# Altium footprint library Speaker Library.PcbLib: 45 footprints (part 3 of 3)
Each footprint in its own frame and in the unit in brackets; x right, y up, seen from the top. Pads: shape width x height; smd on the part's side, far side on the other; paste and mask are expansions set on the pad; w line width, h text height; cw(c..) or ccw(c..) is an arc to the next point about the centre after c.
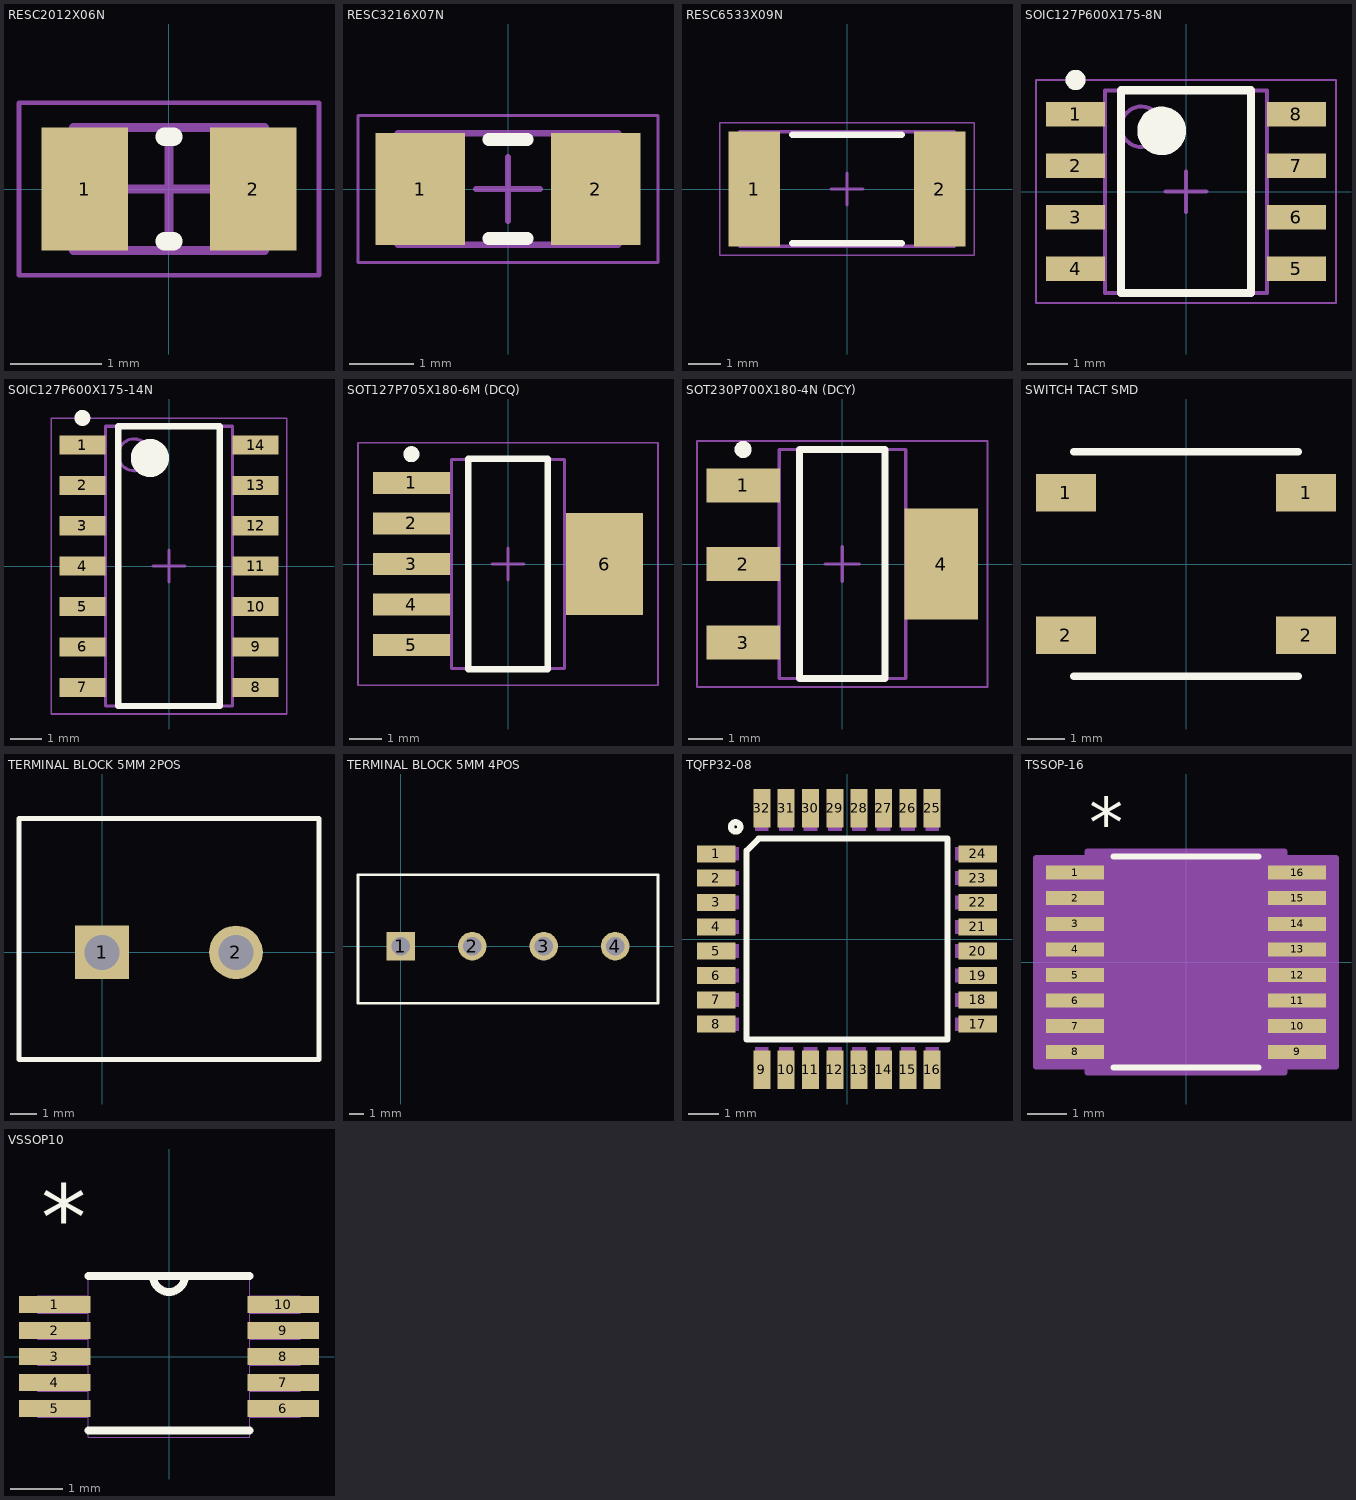
[diagram p2: the footprints below, top view; thin cyan lines are the x and y axes]

## RESC2012X06N [mm] "Chip Resistor, 2-Leads, Body 2.00x1.25mm, IPC Medium Density"
height 0.6
pads (2):
  rect 0.95x1.35 smd: 1(-0.925,0) 2(0.925,0)
Top Overlay:
  lines w0.2: -0.05,-0.575 0.05,-0.575 ; -0.05,0.575 0.05,0.575
Mechanical 13:
  lines w0.1: -1.05,-0.675 -1.05,0.675 1.05,0.675 1.05,-0.675 -1.05,-0.675
Mechanical 15:
  lines w0.05: -1.65,-0.95 -1.65,0.95 1.65,0.95 1.65,-0.95 -1.65,-0.95
  lines w0.1: -0.5,0 0.5,0 ; 0,-0.5 0,0.5
3D body: height 0.6, standoff 0, extent -0.75,-0.675 0.75,0.675
3D body: height 0.6, standoff 0, extent -1.05,-0.675 -0.75,0.675
3D body: height 0.6, standoff 0, extent 0.75,-0.675 1.05,0.675

## RESC3216X07N [mm] "Chip Resistor, 2-Leads, Body 3.20x1.60mm, IPC Medium Density"
height 0.7
pads (2):
  rect 1.4x1.75 smd: 1(-1.375,0) 2(1.375,0)
Top Overlay:
  lines w0.2: -0.3,-0.775 0.3,-0.775 ; -0.3,0.775 0.3,0.775
Mechanical 13:
  lines w0.1: -1.725,-0.875 -1.725,0.875 1.725,0.875 1.725,-0.875 -1.725,-0.875
Mechanical 15:
  lines w0.05: -2.35,-1.15 -2.35,1.15 2.35,1.15 2.35,-1.15 -2.35,-1.15
  lines w0.1: -0.5,0 0.5,0 ; 0,-0.5 0,0.5
3D body: height 0.7, standoff 0, extent -1.225,-0.875 1.225,0.875
3D body: height 0.7, standoff 0, extent -1.725,-0.875 -1.225,0.875
3D body: height 0.7, standoff 0, extent 1.225,-0.875 1.725,0.875

## RESC6533X09N [mm] "Chip Resistor, 2-Leads, Body 6.45x3.35mm, IPC Medium Density"
height 0.9
pads (2):
  rect 1.6x3.55 smd: 1(-2.875,0) 2(2.875,0)
Top Overlay:
  lines w0.2: -1.7,-1.675 1.7,-1.675 ; -1.7,1.675 1.7,1.675
Mechanical 13:
  lines w0.1: -3.325,-1.775 -3.325,1.775 3.325,1.775 3.325,-1.775 -3.325,-1.775
Mechanical 15:
  lines w0.05: -3.95,-2.05 -3.95,2.05 3.95,2.05 3.95,-2.05 -3.95,-2.05
  lines w0.1: -0.5,0 0.5,0 ; 0,-0.5 0,0.5
3D body: height 0.9, standoff 0, extent -2.375,-1.775 2.375,1.775
3D body: height 0.9, standoff 0, extent -3.325,-1.775 -2.375,1.775
3D body: height 0.9, standoff 0, extent 2.375,-1.775 3.325,1.775

## SOIC127P600X175-8N [mm] "SOIC, 8-Leads, Body 4.90x3.90mm, Pitch 1.27mm, IPC Medium Density"
height 1.75
pads (8):
  rect 1.45x0.6 smd: 1(-2.725,1.905) 2(-2.725,0.635) 3(-2.725,-0.635) 4(-2.725,-1.905) 5(2.725,-1.905) 6(2.725,-0.635) 7(2.725,0.635) 8(2.725,1.905)
Top Overlay:
  circle w0.6: c-0.6,1.5 r0.3
  circle w0.25: c-2.725,2.755 r0.125
  lines w0.2: -1.6,-2.5 1.6,-2.5 1.6,2.5 -1.6,2.5 -1.6,-2.5
Mechanical 13:
  circle w0.1: c-1.1,1.6 r0.5
  lines w0.1: -2,-2.5 2,-2.5 2,2.5 -2,2.5 -2,-2.5
Mechanical 15:
  lines w0.05: -3.7,-2.75 3.7,-2.75 3.7,2.75 -3.7,2.75 -3.7,-2.75
  lines w0.1: -0.5,0 0.5,0 ; 0,-0.5 0,0.5
3D body: height 1.75, standoff 0.1, extent -2,-2.5 2,2.5

## SOIC127P600X175-14N [mm] "SOIC, 14-Leads, Body 8.65x3.90mm, Pitch 1.27mm, IPC Medium Density"
height 1.75
pads (14):
  rect 1.45x0.6 smd: 1(-2.725,3.81) 2(-2.725,2.54) 3(-2.725,1.27) 4(-2.725,0) 5(-2.725,-1.27) 6(-2.725,-2.54) 7(-2.725,-3.81) 8(2.725,-3.81) 9(2.725,-2.54) 10(2.725,-1.27) 11(2.725,0) 12(2.725,1.27) 13(2.725,2.54) 14(2.725,3.81)
Top Overlay:
  circle w0.6: c-0.6,3.4 r0.3
  circle w0.25: c-2.725,4.66 r0.125
  lines w0.2: -1.6,-4.4 1.6,-4.4 1.6,4.4 -1.6,4.4 -1.6,-4.4
Mechanical 13:
  circle w0.1: c-1.1,3.5 r0.5
  lines w0.1: -2,-4.4 2,-4.4 2,4.4 -2,4.4 -2,-4.4
Mechanical 15:
  lines w0.05: -3.7,-4.65 3.7,-4.65 3.7,4.65 -3.7,4.65 -3.7,-4.65
  lines w0.1: -0.5,0 0.5,0 ; 0,-0.5 0,0.5
3D body: height 1.75, standoff 0.1, extent -2,-4.4 2,4.4

## SOT127P705X180-6M (DCQ) [mm] "SOT223, 6-Leads, Body 6.50x7.05mm (avg), Pitch 1.27mm, IPC Low Density"
height 1.8
pads (6):
  rect 2.4x0.7 smd: 1(-3.025,2.54) 2(-3.025,1.27) 3(-3.025,0) 4(-3.025,-1.27) 5(-3.025,-2.54)
  rect 2.4x3.2 smd: 6(3.025,0)
Top Overlay:
  circle w0.25: c-3.025,3.44 r0.125
  lines w0.2: -1.25,-3.3 1.25,-3.3 1.25,3.3 -1.25,3.3 -1.25,-3.3
Mechanical 13:
  lines w0.1: -1.775,-3.275 1.775,-3.275 1.775,3.275 -1.775,3.275 -1.775,-3.275
Mechanical 15:
  lines w0.05: -4.7,-3.8 4.7,-3.8 4.7,3.8 -4.7,3.8 -4.7,-3.8
  lines w0.1: -0.5,0 0.5,0 ; 0,-0.5 0,0.5
3D body "SOT127P705X180-6M (DCQ).step": height 1.8, standoff 0, extent -3.528,-3.275 3.528,3.275

## SOT230P700X180-4N (DCY) [mm] "SOT223, 4-Leads, Body 6.50x7.00mm (avg), Pitch 2.30mm, IPC Medium Density"
height 1.8
pads (4):
  rect 2.15x1 smd: 1(-2.9,2.3) 2(-2.9,0) 3(-2.9,-2.3)
  rect 2.15x3.25 smd: 4(2.9,0)
Top Overlay:
  circle w0.25: c-2.9,3.35 r0.125
  lines w0.2: -1.25,-3.35 1.25,-3.35 1.25,3.35 -1.25,3.35 -1.25,-3.35
Mechanical 13:
  lines w0.1: -1.85,-3.35 1.85,-3.35 1.85,3.35 -1.85,3.35 -1.85,-3.35
Mechanical 15:
  lines w0.05: -4.25,-3.6 4.25,-3.6 4.25,3.6 -4.25,3.6 -4.25,-3.6
  lines w0.1: -0.5,0 0.5,0 ; 0,-0.5 0,0.5
3D body "SOT230P700X180-4N (DCY).step": height 1.8, standoff 0, extent -3.5,-3.35 3.5,3.35

## SWITCH TACT SMD [mm]
pads (4):
  rect 1.6x1 smd: 1(-3.2,1.9) 1(3.2,1.9) 2(-3.2,-1.9) 2(3.2,-1.9)
Top Overlay:
  lines w0.2: -3,-3 3,-3 ; -3,3 3,3

## TERMINAL BLOCK 5MM 2POS [mm]
pads (2):
  rect 2x2 hole 1.3: 1(0,0)
  round 2 hole 1.3: 2(5,0)
Top Overlay:
  lines w0.2: -3.1,-4 -3.1,5 8.1,5 8.1,-4 -3.1,-4
3D body: height 12.6, standoff 0, extent -2.5,-4 7.5,5

## TERMINAL BLOCK 5MM 4POS [mm]
pads (4):
  rect 2x2 hole 1.3: 1(0,0)
  round 2 hole 1.3: 2(5,0) 3(10,0) 4(15,0)
Top Overlay:
  lines w0.2: -3,-4 -3,5 18,5 18,-4 -3,-4
3D body: height 12.6, standoff 0, extent -2.5,-4 17.5,5

## TQFP32-08 [mil]
pads (32):
  rect 50x22 smd mask+2: 1(-169,110.24) 2(-169,78.74) 3(-169,47.24) 4(-169,15.75) 5(-169,-15.75) 6(-169,-47.24) 7(-169,-78.74) 8(-169,-110.24) 17(169,-110.24) 18(169,-78.74) 19(169,-47.24) 20(169,-15.75) 21(169,15.75) 22(169,47.24) 23(169,78.74) 24(169,110.24)
  rect 22x50 smd mask+2: 9(-110.24,-169) 10(-78.74,-169) 11(-47.24,-169) 12(-15.75,-169) 13(15.75,-169) 14(47.24,-169) 15(78.74,-169) 16(110.24,-169) 25(110.24,169) 26(78.74,169) 27(47.24,169) 28(15.75,169) 29(-15.75,169) 30(-47.24,169) 31(-78.74,169) 32(-110.24,169)
Top Overlay:
  circle w8: c-144,145 r6
  lines w8: -129.92,-129.92 129.92,-129.92 129.92,129.92 -114.17,129.92 -129.92,114.17 -129.92,-129.92
Mechanical 16:
  rectangle: -179,101.24 -140,119.24
  rectangle: -179,69.74 -140,87.74
  rectangle: -179,38.24 -140,56.24
  rectangle: -179,6.75 -140,24.75
  rectangle: -179,-24.75 -140,-6.75
  rectangle: -179,-56.24 -140,-38.24
  rectangle: -179,-87.74 -140,-69.74
  rectangle: -179,-119.24 -140,-101.24
  rectangle: -119.24,-179 -101.24,-140
  rectangle: -87.74,-179 -69.74,-140
  rectangle: -56.24,-179 -38.24,-140
  rectangle: -24.75,-179 -6.75,-140
  rectangle: 6.75,-179 24.75,-140
  rectangle: 38.24,-179 56.24,-140
  rectangle: 69.74,-179 87.74,-140
  rectangle: 101.24,-179 119.24,-140
  rectangle: 140,-119.24 179,-101.24
  rectangle: 140,-87.74 179,-69.74
  rectangle: 140,-56.24 179,-38.24
  rectangle: 140,-24.75 179,-6.75
  rectangle: 140,6.75 179,24.75
  rectangle: 140,38.24 179,56.24
  rectangle: 140,69.74 179,87.74
  rectangle: 140,101.24 179,119.24
  rectangle: 101.24,140 119.24,179
  rectangle: 69.74,140 87.74,179
  rectangle: 38.24,140 56.24,179
  rectangle: 6.75,140 24.75,179
  rectangle: -24.75,140 -6.75,179
  rectangle: -56.24,140 -38.24,179
  rectangle: -87.74,140 -69.74,179
  rectangle: -119.24,140 -101.24,179

## TSSOP-16 [mil]
pads (16):
  rect 58x14 smd: 1(-111,89.57) 2(-111,63.98) 3(-111,38.39) 4(-111,12.8) 5(-111,-12.8) 6(-111,-38.39) 7(-111,-63.98) 8(-111,-89.57) 9(111,-89.57) 10(111,-63.98) 11(111,-38.39) 12(111,-12.8) 13(111,12.8) 14(111,38.39) 15(111,63.98) 16(111,89.57)
Top Overlay:
  lines w6: -72.42,-105.5 72.42,-105.5 ; -72.42,105.5 72.42,105.5
  text "*" at -97,115 h50
Mechanical 13:
  lines w0: -12,100.5 ccw(c0,100.5) 12,100.5
Mechanical 15:
  region: -98.5,-104.36 -150,-104.36 -150,104.36 -98.5,104.36 -98.5,110.5 98.5,110.5 98.5,104.36 150,104.36 150,-104.36 98.5,-104.36 98.5,-110.5 -98.5,-110.5
  lines w6: -150,-104.36 -150,104.36 -98.5,104.36 -98.5,110.5 98.5,110.5 98.5,104.36 150,104.36 150,-104.36 98.5,-104.36 98.5,-110.5 -98.5,-110.5 -98.5,-104.36 -150,-104.36
3D body "RU_16.stp": height 47.01, standoff 0, extent -126,-100.5 126,100.5

## VSSOP10 [mil] "DGS (S-PDS0-G10"
pads (10):
  rect 54x13 smd mask+1: 1(-86.5,39.37) 2(-86.5,19.68) 3(-86.5,0) 4(-86.5,-19.68) 5(-86.5,-39.37) 6(86.5,-39.37) 7(86.5,-19.68) 8(86.5,0) 9(86.5,19.68) 10(86.5,39.37)
Top Overlay:
  lines w6: -61,-56 61,-56 ; -61,61 61,61 ; -12,61 ccw(c0,61) 12,61
  text "*" at -96.5,80.87 h50
Mechanical 1:
  lines w0: -12,61 ccw(c0,61) 12,61 ; -99.5,-45.87 -99.5,-32.87 -61,-32.87 -61,-45.87 -99.5,-45.87 ; -99.5,-26.18 -99.5,-13.19 -61,-13.19 -61,-26.18 -99.5,-26.18 ; -99.5,-6.5 -99.5,6.5 -61,6.5 -61,-6.5 -99.5,-6.5 ; -99.5,13.19 -99.5,26.18 -61,26.18 -61,13.19 -99.5,13.19 ; -99.5,32.87 -99.5,45.87 -61,45.87 -61,32.87 -99.5,32.87 ; -61,-61 61,-61 61,61 -61,61 -61,-61 ; 61,-45.87 61,-32.87 99.5,-32.87 99.5,-45.87 61,-45.87 ; 61,-26.18 61,-13.19 99.5,-13.19 99.5,-26.18 61,-26.18 ; 61,-6.5 61,6.5 99.5,6.5 99.5,-6.5 61,-6.5 ; 61,13.19 61,26.18 99.5,26.18 99.5,13.19 61,13.19 ; 61,32.87 61,45.87 99.5,45.87 99.5,32.87 61,32.87
  text "*" at -96.5,80.87 h50
3D body "DGS0010A.stp": height 41.73, standoff -1.57, extent -96.95,-59.05 96.95,59.06